# Altium schematic symbol library 1985894.SchLib: 1 symbol
Pins are listed as number, name and electrical type; pins without a type are passive.

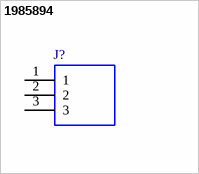
[diagram p0: symbol 1985894]

## 1985894
designator J?
PCB terminal block, nominal current: 17.5 A, rated voltage (III/2): 320 V, nominal cross section: 1.5 mm?, Number of potentials: 3, Number of rows: 1, Number of positions per row: 3, product range: MKDS 1,5/..-HT, pitch: 5 mm, connection method: Screw connection with tension sleeve, mounting: THR soldering, conductor/PCB connection direction: 0 ?, color: black, Pin layout: Linear pinning, Solder pin [P]: 3.5 mm, type of packaging: packed in cardboard. This article can be soldered in the reflow furnace toget; Manufacturer_Name: Phoenix Contact; Geometry.Height: 13.9mm; Mouser Part Number: 651-1985894; Mouser Price/Stock: https://www.mouser.co.uk/ProductDetail/Phoenix-Contact/1985894?qs=YbgdthCBnKfsBopdrw3nvw%3D%3D; Manufacturer_Part_Number: 1985894; Datasheet Link: https://www.phoenixcontact.com/online/portal/us/?uri=pxc-oc-itemdetail:pid=1985894&library=usen&pcck=P&tab=1&selectedCategory=ALL
footprint 1985894
pins: 1, 2, 3